# EAGLE library part LM3S811 (library EE445L)
LM3S811-IQN50-C28k RAM,64k Flash,32 I/O pins, 50 MHz, Cortex M3 PA0 – PA1 U0RX, U0TX Universal Asynchronous Receiver/Transmitter, UART0 PA2 – PA5 SCLK, SFSS, SRX, STX Synchronous Serial Interface, SSI0 PB0, PB1 PWM2, PWM3 Pulse Width Modulator 1 PB2 – PB3 SCL, SDA Inter-Integrated Circuit, I2C0 PB4, PB6, PD7 C0-, C0+, C0o Analog Comparator 0 PB5 CCP5 Timer2B Capture/Compare PB7, PC0 – PC3 TRST, TCLK, TMS, TDI, TDO JTAG Debugger PC5 CCP1 Timer 0B Capture/Compare PC6 CCP3 Timer 1B Capture/Compare PC7 CCP4 Timer 2A Capture/Compare PD0, PD1 PWM0, PWM1 Pulse Width Modulator 0 PD2 – PD3 U1RX, U1TX Universal Asynchronous Receiver/Transmitter, UART1 PD4 CCP0 Timer 0A Capture/Compare PD5 CCP2 Timer 1A Capture/Compare PD6 Fault Hold all PWM outputs in safe state PE0, PE1 PWM4, PWM5 Pulse Width Modulator 2 ADC3-ADC0 ADC 10 bit ADC
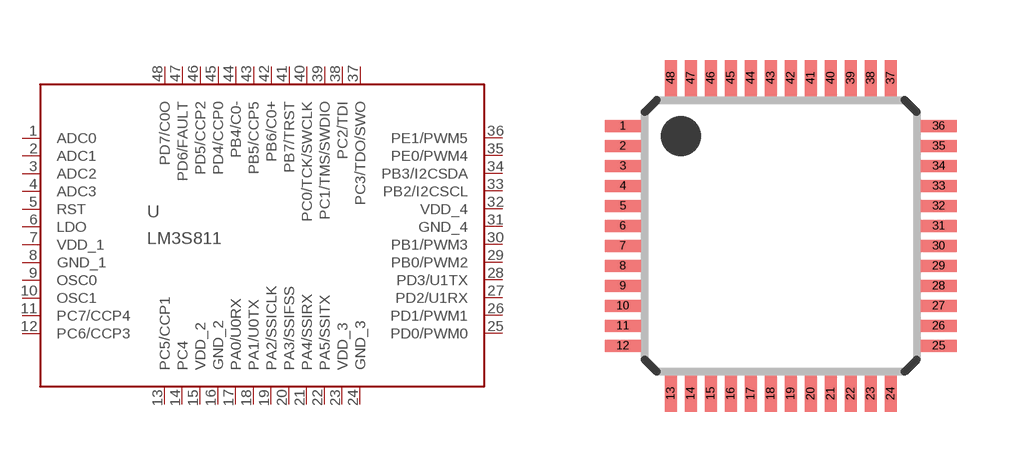
[diagram p22: symbol with the pads of LQFP48-7X7; footprint LQFP48-7X7]

Designator prefix U

## LM3S811 (MFN: LM3S811-IQN50-C2)  [LQFP48-7X7]
1  ADC0  in
2  ADC1  in
3  ADC2  in
4  ADC3  in
5  RST  in
6  LDO  pwr
7  VDD_1  pwr
8  GND_1  pwr
9  OSC0
10  OSC1
11  PC7/CCP4
12  PC6/CCP3
13  PC5/CCP1
14  PC4
15  VDD_2  pwr
16  GND_2  pwr
17  PA0/U0RX
18  PA1/U0TX
19  PA2/SSICLK
20  PA3/SSIFSS
21  PA4/SSIRX
22  PA5/SSITX
23  VDD_3  pwr
24  GND_3  pwr
25  PD0/PWM0
26  PD1/PWM1
27  PD2/U1RX
28  PD3/U1TX
29  PB0/PWM2
30  PB1/PWM3
31  GND_4  pwr
32  VDD_4  pwr
33  PB2/I2CSCL
34  PB3/I2CSDA
35  PE0/PWM4
36  PE1/PWM5
37  PC3/TDO/SWO
38  PC2/TDI
39  PC1/TMS/SWDIO
40  PC0/TCK/SWCLK
41  PB7/TRST
42  PB6/C0+
43  PB5/CCP5
44  PB4/C0-
45  PD4/CCP0
46  PD5/CCP2
47  PD6/FAULT
48  PD7/C0O

## Footprint LQFP48-7X7 (pad centres in mm)
48-pin low profile quad flat package (7 x 7) Source: Data sheet <http://www.st.com/stonline/products/literature/ds/14771/stm8s105c4.pdf>
smd 0.9 x 0.3: 1 -3.95,2.75; 2 -3.95,2.25; 3 -3.95,1.75; 4 -3.95,1.25; 5 -3.95,0.75; 6 -3.95,0.25; 7 -3.95,-0.25; 8 -3.95,-0.75; 9 -3.95,-1.25; 10 -3.95,-1.75; 11 -3.95,-2.25; 12 -3.95,-2.75; 25 3.95,-2.75; 26 3.95,-2.25; 27 3.95,-1.75; 28 3.95,-1.25; 29 3.95,-0.75; 30 3.95,-0.25; 31 3.95,0.25; 32 3.95,0.75; 33 3.95,1.25; 34 3.95,1.75; 35 3.95,2.25; 36 3.95,2.75
smd 0.3 x 0.9: 13 -2.75,-3.95; 14 -2.25,-3.95; 15 -1.75,-3.95; 16 -1.25,-3.95; 17 -0.75,-3.95; 18 -0.25,-3.95; 19 0.25,-3.95; 20 0.75,-3.95; 21 1.25,-3.95; 22 1.75,-3.95; 23 2.25,-3.95; 24 2.75,-3.95; 37 2.75,3.95; 38 2.25,3.95; 39 1.75,3.95; 40 1.25,3.95; 41 0.75,3.95; 42 0.25,3.95; 43 -0.25,3.95; 44 -0.75,3.95; 45 -1.25,3.95; 46 -1.75,3.95; 47 -2.25,3.95; 48 -2.75,3.95